# EAGLE library part TPS2115AIPWRQ1 (library MakeItLabs)
AUTO-SWITCHING POWER MULTIPLEXER
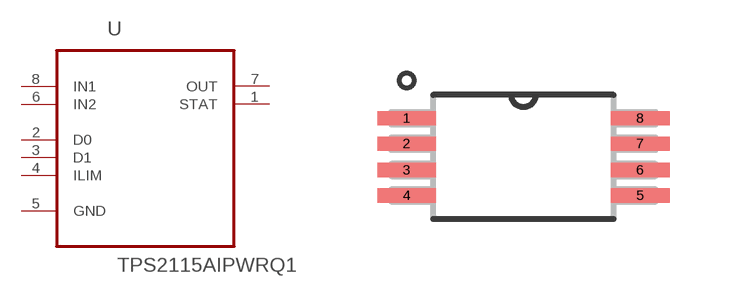
[diagram p18: symbol with the pads of SOP65P640X120-8N; footprint SOP65P640X120-8N]

Designator prefix U

## TPS2115AIPWRQ1 (MPN: TPS2115AIPWRQ1; OC_FARNELL: -; OC_NEWARK: 52P6807; PACKAGE: TSSOP-8; SUPPLIER: Texas Instruments)  [SOP65P640X120-8N]
1  STAT  out
2  D0  in
3  D1  in
4  ILIM  in
5  GND  pas
6  IN2  pwr
7  OUT  out
8  IN1  pwr

## Footprint SOP65P640X120-8N (pad centres in mm)
smd 1.473 x 0.356: 1 -2.921,0.965; 2 -2.921,0.33; 3 -2.921,-0.33; 4 -2.921,-0.965; 5 2.921,-0.965; 6 2.921,-0.33; 7 2.921,0.33; 8 2.921,0.965